# EAGLE library part 103735-07 (library con-tyco-modu)
HEADER
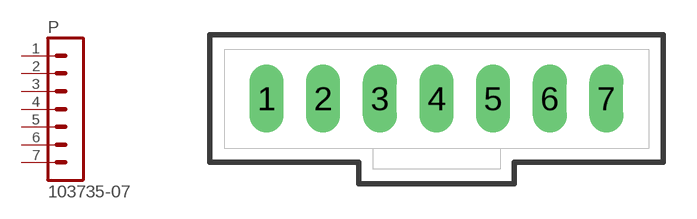
[diagram p1: symbol with the pads of 103735-07; footprint 103735-07]

Designator prefix P

## 103735-07  [103735-07]
1  1  pas
2  2  pas
3  3  pas
4  4  pas
5  5  pas
6  6  pas
7  7  pas

## Footprint 103735-07 (pad centres in mm)
HEADER - MTE
drill 1.016 long: 1 -7.62,0; 2 -5.08,0; 3 -2.54,0; 4 0,0; 5 2.54,0; 6 5.08,0; 7 7.62,0